# Altium schematic symbol library NEC_Control_24-04-2020.SchLib: 1 symbol
Pins are listed as number, name and electrical type; pins without a type are passive.

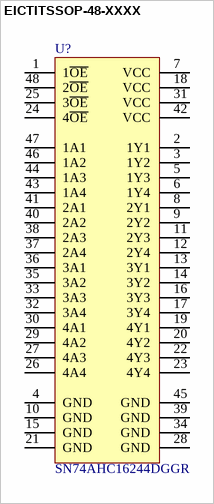
[diagram p0: symbol EICTITSSOP-48-XXXX]

## EICTITSSOP-48-XXXX
designator U?, comment value SN74AHC16244DGGR  (hidden comment: IC BUF NON-INVERT 5.5V 48TSSOP)  (mechanical)
Vendor Part Number: 296-4563-1-ND; Manufacturer: Texas Instruments; Internal Part Number: EICTITSSOP-48-XXXX; 1st Auxiliary Field: 2V ~ 5.5V; 2nd Auxiliary Field: 8mA, 8mA; 3rd Auxiliary Field: ROHS3 Compliant; Vendor Name: Digi-Key; Component Height (mm): 1.2mm; Temp Co: -40°C ~ 125°C (TA); Part Type: IC BUF NON-INVERT 5.5V 48TSSOP; 4th Auxiliary Field: *; Manufacturer Part Number: SN74AHC16244DGGR
footprint TSSOP50P810X120-48N (TSSOP, 48-Leads, Body 12.50x6.10mm, Pitch 0.50mm, IPC Medium Density)
pins: 1 1~{OE}, 2 1Y1, 3 1Y2, 4 GND, 5 1Y3, 6 1Y4, 7 VCC, 8 2Y1, 9 2Y2, 10 GND, 11 2Y3, 12 2Y4, 13 3Y1, 14 3Y2, 15 GND, 16 3Y3, 17 3Y4, 18 VCC, 19 4Y1, 20 4Y2, 21 GND, 22 4Y3, 23 4Y4, 24 4~{OE}, 25 3~{OE}, 26 4A4, 27 4A3, 28 GND, 29 4A2, 30 4A1, 31 VCC, 32 3A4, 33 3A3, 34 GND, 35 3A2, 36 3A1, 37 2A4, 38 2A3, 39 GND, 40 2A2, 41 2A1, 42 VCC, 43 1A4, 44 1A3, 45 GND, 46 1A2, 47 1A1, 48 2~{OE}